# Altium footprint library pedals-inductors.PCBLIB: 2 footprints
Each footprint in its own frame and in the unit in brackets; x right, y up, seen from the top. Pads: shape width x height; smd on the part's side, far side on the other; paste and mask are expansions set on the pad; w line width, h text height; cw(c..) or ccw(c..) is an arc to the next point about the centre after c.
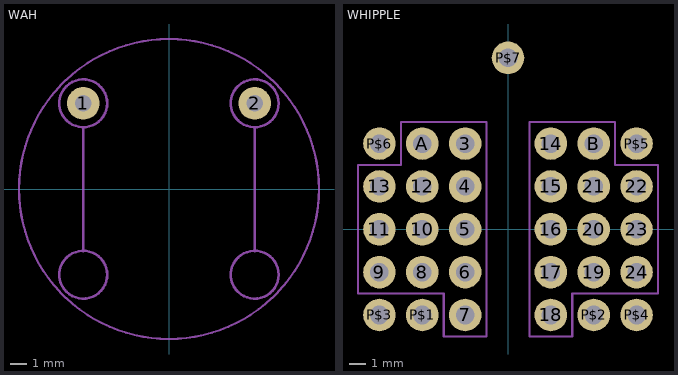
[diagram p0: the footprints below, top view; thin cyan lines are the x and y axes]

## WAH [mil]
pads (2):
  round 76 hole 39.37: 1(-200,200) 2(200,200)
Mechanical 2:
  circle w5: c0,0 r350
  circle w6: c-200,200 r55.9
  circle w6: c200,200 r55.9
  circle w6: c200,-200 r55.9
  circle w6: c-200,-200 r55.9
  lines w6: -200,-145 -200,140 ; 200,-145 200,140

## WHIPPLE [mil]
pads (31):
  round 76 hole 43.31: 3(-100,200) 4(-100,100) 5(-100,0) 6(-100,-100) 7(-100,-200) 8(-200,-100) 9(-300,-100) 10(-200,0) 11(-300,0) 12(-200,100) 13(-300,100) 14(100,200) 15(100,100) 16(100,0) 17(100,-100) 18(100,-200) 19(200,-100) 20(200,0) 21(200,100) 22(300,100) 23(300,0) 24(300,-100) A(-200,200) B(200,200) P$1(-200,-200) P$2(200,-200) P$3(-300,-200) P$4(300,-200) P$5(300,200) P$6(-300,200) P$7(0,400)
Mechanical 2:
  lines w5: -350,-150 -350,150 -250,150 -250,250 -50,250 -50,-250 -150,-250 -150,-150 -350,-150 ; 50,-250 150,-250 150,-150 350,-150 350,150 250,150 250,250 50,250 50,-250